# EAGLE library part SIM800C (library Bauteile)
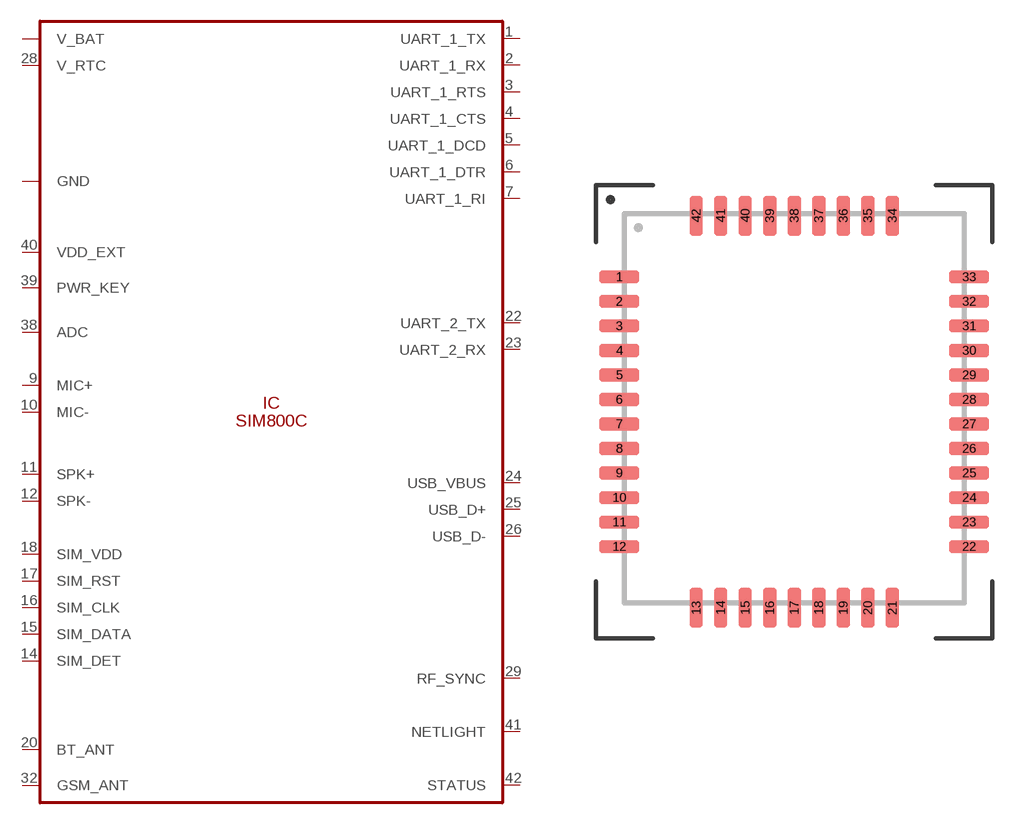
[diagram p100: symbol with the pads of SIM800C; footprint SIM800C]

Designator prefix IC

## SIM800C  [SIM800C]
1  UART_1_TX
2  UART_1_RX
3  UART_1_RTS
4  UART_1_CTS
5  UART_1_DCD
6  UART_1_DTR
7  UART_1_RI
8  GND
9  MIC+
10  MIC-
11  SPK+
12  SPK-
13  GND
14  SIM_DET
15  SIM_DATA
16  SIM_CLK
17  SIM_RST
18  SIM_VDD
19  GND
20  BT_ANT
21  GND
22  UART_2_TX
23  UART_2_RX
24  USB_VBUS
25  USB_D+
26  USB_D-
27  GND
28  V_RTC
29  RF_SYNC
30  GND
31  GND
32  GSM_ANT
33  GND
34  V_BAT
35  V_BAT
36  GND
37  GND
38  ADC
39  PWR_KEY
40  VDD_EXT
41  NETLIGHT
42  STATUS

## Footprint SIM800C (pad centres in mm)
smd 1.8 x 0.6: 1 -7.85,6.05; 2 -7.85,4.95; 3 -7.85,3.85; 4 -7.85,2.75; 5 -7.85,1.65; 6 -7.85,0.55; 7 -7.85,-0.55; 8 -7.85,-1.65; 9 -7.85,-2.75; 10 -7.85,-3.85; 11 -7.85,-4.95; 12 -7.85,-6.05; 22 7.85,-6.05; 23 7.85,-4.95; 24 7.85,-3.85; 25 7.85,-2.75; 26 7.85,-1.65; 27 7.85,-0.55; 28 7.85,0.55; 29 7.85,1.65; 30 7.85,2.75; 31 7.85,3.85; 32 7.85,4.95; 33 7.85,6.05
smd 0.6 x 1.8: 13 -4.4,-8.8; 14 -3.3,-8.8; 15 -2.2,-8.8; 16 -1.1,-8.8; 17 0,-8.8; 18 1.1,-8.8; 19 2.2,-8.8; 20 3.3,-8.8; 21 4.4,-8.8; 34 4.4,8.8; 35 3.3,8.8; 36 2.2,8.8; 37 1.1,8.8; 38 0,8.8; 39 -1.1,8.8; 40 -2.2,8.8; 41 -3.3,8.8; 42 -4.4,8.8